# EAGLE library part 1984659 (library Amplifier_Parts)
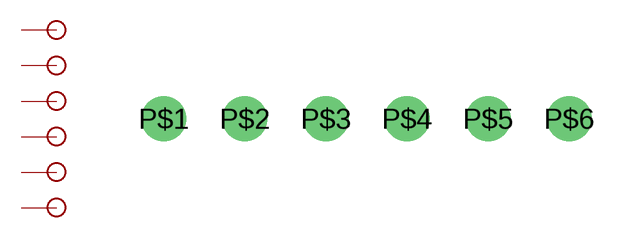
[diagram p7: symbol with the pads of 1984659; footprint 1984659]

Designator prefix C

## 1984659  [1984659]
P$1  1
P$2  2
P$3  3
P$4  4
P$5  5
P$6  6

## Footprint 1984659 (pad centres in mm)
drill 1.3: P$1 1.75,4.4; P$2 5.25,4.4; P$3 8.75,4.4; P$4 12.25,4.4; P$5 15.75,4.4; P$6 19.25,4.4